# EAGLE library part ARDUINO_PRO_MINI (library Boards)
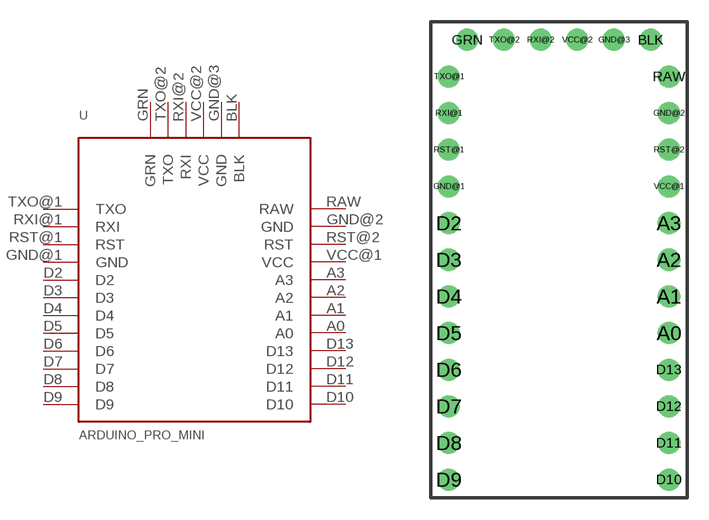
[diagram p10: symbol with the pads of ARDUINO_PRO_MINI; footprint ARDUINO_PRO_MINI]

Designator prefix -

## ARDUINO_PRO_MINI  [ARDUINO_PRO_MINI]
A0  A0
A1  A1
A2  A2
A3  A3
BLK  BLK  pwr
D2  D2
D3  D3
D4  D4
D5  D5
D6  D6
D7  D7
D8  D8
D9  D9
D10  D10
D11  D11
D12  D12
D13  D13
GND@1  GND  pwr
GND@2  GND  pwr
GND@3  GND  pwr
GRN  GRN  pwr
RAW  RAW  pwr
RST@1  RST
RST@2  RST
RXI@1  RXI
RXI@2  RXI
TXO@1  TXO
TXO@2  TXO
VCC@1  VCC  pwr
VCC@2  VCC  pwr

## Footprint ARDUINO_PRO_MINI (pad centres in mm)
drill 1.016: A0 7.62,-5.08; A1 7.62,-2.54; A2 7.62,0; A3 7.62,2.54; BLK 6.35,15.24; D2 -7.62,2.54; D3 -7.62,0; D4 -7.62,-2.54; D5 -7.62,-5.08; D6 -7.62,-7.62; D7 -7.62,-10.16; D8 -7.62,-12.7; D9 -7.62,-15.24; D10 7.62,-15.24; D11 7.62,-12.7; D12 7.62,-10.16; D13 7.62,-7.62; GND@1 -7.62,5.08; GND@2 7.62,10.16; GND@3 3.81,15.24; GRN -6.35,15.24; RAW 7.62,12.7; RST@1 -7.62,7.62; RST@2 7.62,7.62; RXI@1 -7.62,10.16; RXI@2 -1.27,15.24; TXO@1 -7.62,12.7; TXO@2 -3.81,15.24; VCC@1 7.62,5.08; VCC@2 1.27,15.24